# Altium integrated library Analog Devices Data Converters Analog-to-Digital Converters.IntLib: 2404 symbols (part 130 of 346)
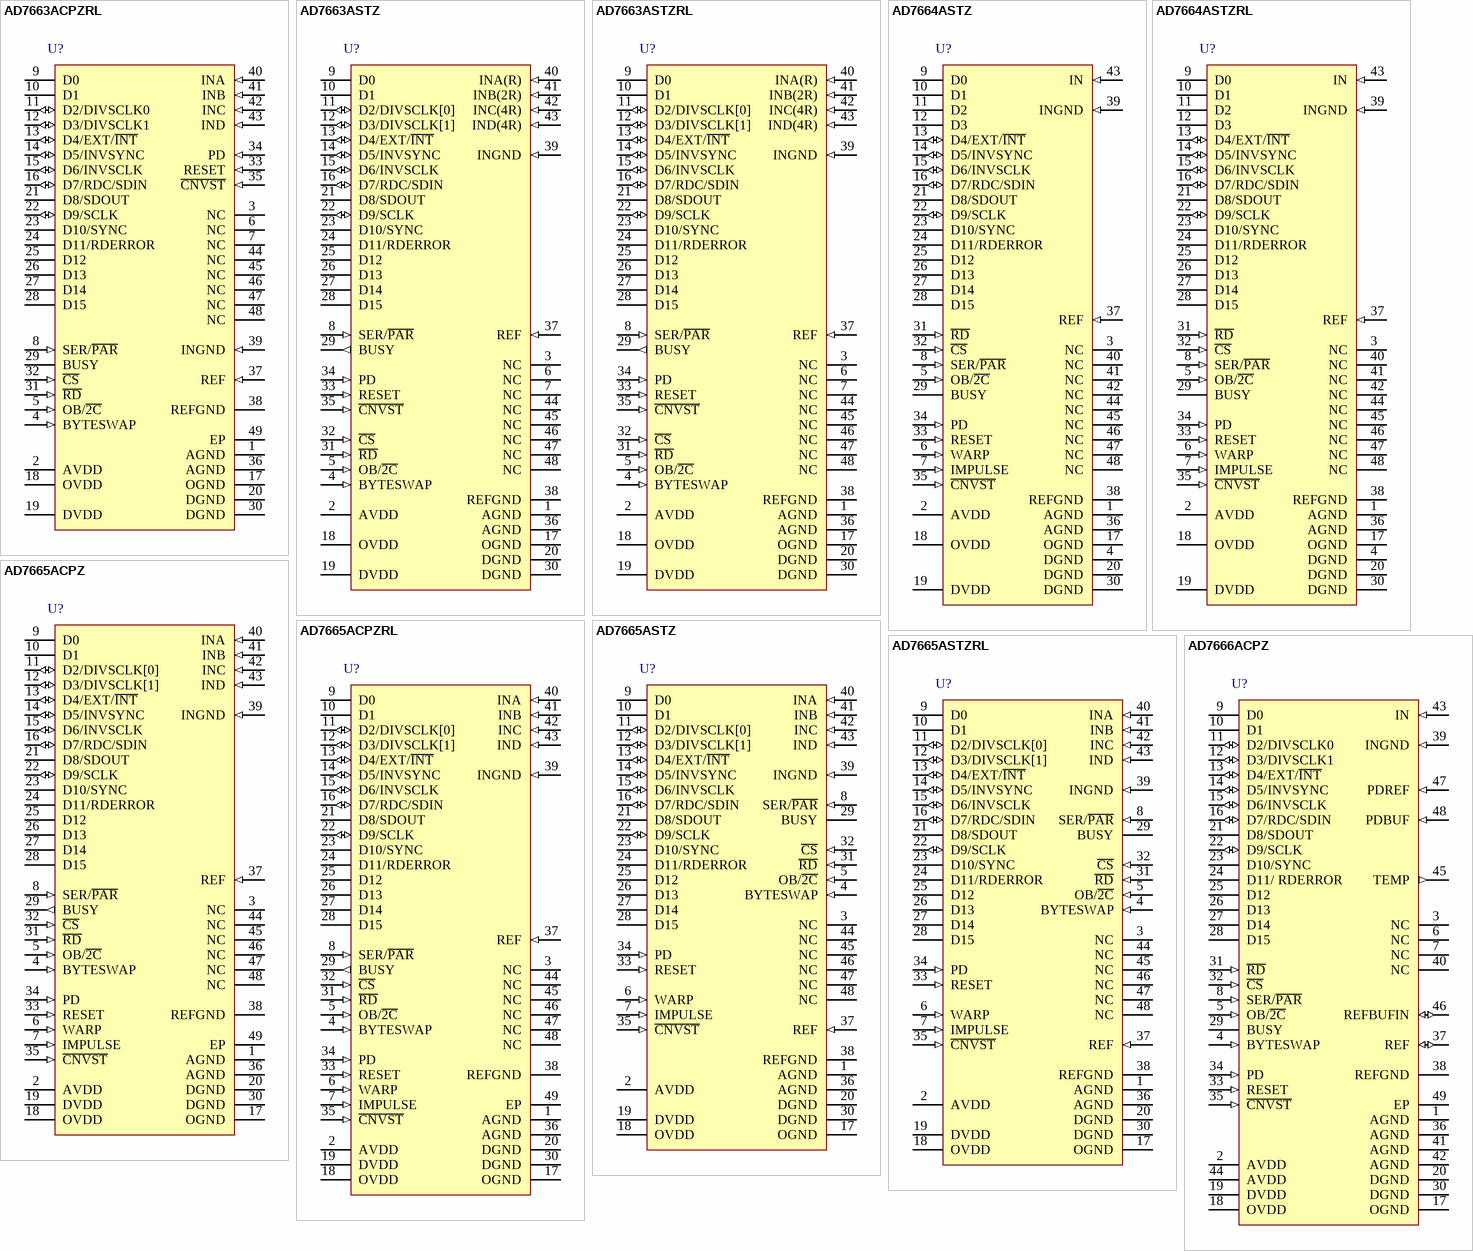
[diagram p227: symbols AD7663ACPZRL to AD7666ACPZ]

## AD7665ASTZRL
designator U?
Single 16-Bit Analog-to-Digital Converter with Parallel, Serial, SPI Interface, CMOS, 570KSPS, -40 to +85 degC, ST-48, Pb-Free, Reel; Generic Part Number: AD7665; Manufacturer: Analog Devices; PartNumber: AD7665ASTZRL; Resolution (Bits): 16; Channels: 1; Throughput Rate (SPS): 570K; Interface: Par, Ser, SPI; DatasheetVersion: Rev.C; PackageVersion: revA; PackageReference: ST-48; PackageDescription: 48-Pin Thin Quad Flat Pack 0.5 mm Pitch; Supplier 1: Digi-Key; Supplier Part Number 1: AD7665ASTZRLTR-ND; Supplier 2: Digi-Key; Supplier Part Number 2: AD7665ASTZRLCT-ND; Supplier 3: Digi-Key; Supplier Part Number 3: AD7665ASTZRLDKR-ND; Supplier 4: Newark; Supplier Part Number 4: 59K5155; Supplier 5: Mouser; Supplier Part Number 5: 584-AD7665ASTZR; RoHS: Y; Packing: Reel; Mounting Technology: Surface Mount; ComponentLink1Description: Manufacturer URL; ComponentLink1URL: http://www.analog.com/en/index.html; ComponentLink2Description: Datasheet; ComponentLink2URL: http://www.analog.com/static/imported-files/data_sheets/AD7665.pdf; ComponentLink3Description: Package Specification; ComponentLink3URL: http://www.analog.com/static/imported-files/packages/PKG_PDF/LQFP%28ST%29/ST_48.pdf; ComponentLink4Description: Product URL; ComponentLink4URL: http://www.analog.com/en/analog-to-digital-converters/ad-converters/ad7665/products/product.html
footprint ST-48_N (Thin QFP, 48-Leads, Body 7x7mm, Pitch 0.5mm, IPC Medium Density)
footprint ST-48_L (Thin QFP, 48-Leads, Body 7x7mm, Pitch 0.5mm, IPC High Density)
footprint ST-48_M (Thin QFP, 48-Leads, Body 7x7mm, Pitch 0.5mm, IPC Low Density)
pins: 1 AGND (power) "Analog Power Ground Pin.", 2 AVDD (power) "Input Analog Power Pin. Nominally 5 V.", 3 NC "No Connect.", 4 BYTESWAP (in) "Parallel Mode Selection (8/16 Bit). When LOW, the LSB is output on D[7:0] and the MSB is output on D[15:8]. When HIGH, the LSB is output on D[15:8] and the MSB is output on D[7:0].", 5 OB/~{2C} (in) "Straight Binary/Binary Twos Complement. When OB/2\C\ is HIGH, the digital output is straight binary; when LOW, the MSB is inverted, resulting in a twos complement output from its internal shift register.", 6 WARP (in) "Mode Selection. When HIGH and IMPULSE LOW, this input selects the fastest mode, the maximum throughput is achievable, and a minimum conversion rate must be applied in order to guarantee full specified accuracy. When LOW, (See Datasheet)", 7 IMPULSE (in) "Mode Selection. When HIGH and WARP LOW, this input selects a reduced Power Mode. In this mode, the power dissipation is approximately proportional to the sampling rate.", 8 SER/~{PAR} (in) "Serial/Parallel Selection Input. When LOW, the Parallel Port is selected; when HIGH, the Serial Interface Mode is selected and some bits of the data bus are used as a Serial Port.", 9 D0 (hiz) "Bit 0 of the Parallel Port Data Output Bus. When SER/P\A\R\ is HIGH, these outputs are in high impedance.", 10 D1 (hiz) "Bit 1 of the Parallel Port Data Output Bus. When SER/P\A\R\ is HIGH, these outputs are in high impedance.", 11 D2/DIVSCLK[0] (io) "When SER/P\A\R\ is LOW, these outputs are used as Bit 2 and Bit 3 of the Parallel Port Data Output Bus. When SER/P\A\R\ is HIGH, EXT/I\N\T\ is LOW and RDC/SDIN is LOW, which is the Serial Master Read after Convert Mode. (See Datasheet)", 12 D3/DIVSCLK[1] (io) "When SER/P\A\R\ is LOW, these outputs are used as Bit 2 and Bit 3 of the Parallel Port Data Output Bus. When SER/P\A\R\ is HIGH, EXT/I\N\T\ is LOW and RDC/SDIN is LOW, which is the Serial Master Read after Convert Mode. (See Datasheet)", 13 D4/EXT/~{INT} (io) "When SER/P\A\R\ is LOW, this output is used as Bit 4 of the Parallel Port Data Output Bus. When SER/P\A\R\ is HIGH, this input, part of the Serial Port, is used as a digital select input for choosing the internal or an (See Datasheet)", 14 D5/INVSYNC (io) "When SER/P\A\R\ is LOW, this output is used as Bit 5 of the Parallel Port Data Output Bus. When SER/P\A\R\ is HIGH, this input, part of the Serial Port, is used to select the active state of the SYNC signal. When LOW, SYNC (See Datasheet)", 15 D6/INVSCLK (io) "When SER/P\A\R\ is LOW, this output is used as Bit 6 of the Parallel Port Data Output Bus. When SER/P\A\R\ is HIGH, this input, part of the Serial Port, is used to invert the SCLK signal. It is active in both master and (See Datasheet)", 16 D7/RDC/SDIN (io) "When SER/P\A\R\ is LOW, this output is used as Bit 7 of the Parallel Port Data Output Bus. When SER/P\A\R\ is HIGH, this input, part of the Serial Port, is used as either an external data input or a read mode selection (See Datasheet)", 17 OGND (power) "Input/Output Interface Digital Power Ground.", 18 OVDD (power) "Input/Output Interface Digital Power. Nominally at the same supply as the supply of the host interface (5 V or 3 V).", 19 DVDD (power) "Digital Power. Nominally at 5 V.", 20 DGND (power) "Digital Power Ground.", 21 D8/SDOUT (hiz) "When SER/P\A\R\ is LOW, this output is used as Bit 8 of the Parallel Port Data Output Bus. When SER/P\A\R\ is HIGH, this output, part of the Serial Port, is used as a serial data output synchronized to SCLK. Conversion (See Datasheet)", 22 D9/SCLK (io) "When SER/P\A\R\ is LOW, this output is used as Bit 9 of the Parallel Port Data Output Bus. When SER/P\A\R\ is HIGH, this pin, part of the Serial Port, is used as a serial data clock input or output, dependent upon the logic (See Datasheet)", 23 D10/SYNC (hiz) "When SER/P\A\R\ is LOW, this output is used as Bit 10 of the Parallel Port Data Output Bus. When SER/P\A\R\ is HIGH, this output, part of the Serial Port, is used as a digital output frame synchronization for use with the (See Datasheet)", 24 D11/RDERROR (hiz) "When SER/P\A\R is LOW, this output is used as Bit 11 of the Parallel Port Data Output Bus. When SER/P\A\R\ is HIGH and EXT/I\N\T\ is HIGH, this output, part of the Serial Port, is used as an incomplete read error flag. In (See Datasheet)", 25 D12 (hiz) "Bit 12 of the Parallel Port Data Output Bus. When SER/PAR is HIGH, these outputs are in high impedance.", 26 D13 (hiz) "Bit 13 of the Parallel Port Data Output Bus. When SER/PAR is HIGH, these outputs are in high impedance.", 27 D14 (hiz) "Bit 14 of the Parallel Port Data Output Bus. When SER/PAR is HIGH, these outputs are in high impedance.", 28 D15 (hiz) "Bit 15 of the Parallel Port Data Output Bus. When SER/PAR is HIGH, these outputs are in high impedance.", 29 BUSY (hiz) "Busy Output. Transitions HIGH when a conversion is started and remains HIGH until the conversion is complete and the data is latched into the on-chip shift register. The falling edge of BUSY could be used as a data-ready (See Datasheet)", 30 DGND (power) "Must Be Tied to Digital Ground.", 31 ~{RD} (in) "Read Data. When C\S\ and R\D\ are both LOW, the Interface Parallel or Serial Output Bus is enabled.", 32 ~{CS} (in) "Chip Select. When C\S\ and R\D\ are both LOW, the Interface Parallel or Serial Output Bus is enabled. C\S\ is also used to gate the external serial clock.", 33 RESET (in) "Reset Input. When set to a logic HIGH, reset the AD7665. Current conversion, if any, is aborted. If not used, this pin could be tied to DGND.", 34 PD (in) "Power-Down Input. When set to a logic HIGH, power consumption is reduced and conversions are inhibited after the current one is completed.", 35 ~{CNVST} (in) "Start Conversion. A falling edge on C\N\V\S\T\ puts the internal sample-and-hold into the hold state and initiates a conversion. In Impulse Mode (IMPULSE HIGH and WARP LOW), if C\N\V\S\T\ is held LOW when the acquisition (See Datasheet)", 36 AGND (power) "Must Be Tied to Analog Ground.", 37 REF (in) "Reference Input Voltage.", 38 REFGND (power) "Reference Input Analog Ground.", 39 INGND (in) "Analog Input Ground.", 40 INA (in) "Analog Inputs. Refer to Table I for input range configuration.", 41 INB (in) "Analog Inputs. Refer to Table I for input range configuration.", 42 INC (in) "Analog Inputs. Refer to Table I for input range configuration.", 43 IND (in) "Analog Inputs. Refer to Table I for input range configuration.", 44 NC "No Connect.", 45 NC "No Connect.", 46 NC "No Connect.", 47 NC "No Connect.", 48 NC "No Connect."

## AD7666ACPZ
designator U?
Single 16-Bit PulSAR Analog-to-Digital Converter with Parallel, Serial, SPI Interface, 500KSPS, -40 to +85 degC, CP-48-1, Pb-Free, Tray; Generic Part Number: AD7666; Manufacturer: Analog Devices; PartNumber: AD7666ACPZ; Resolution (Bits): 16; Channels: 1; Throughput Rate (SPS): 500K; Interface: Par, Ser, SPI; DatasheetVersion: Rev.0; PackageVersion: Jan-2005; PackageReference: CP-48-1; PackageDescription: 48-Lead Lead Frame Chip Scale Package [LFCSP_VQ] 7 x 7 mm Body, Very Thin Quad; Supplier 1: Digi-Key; Supplier Part Number 1: AD7666ACPZ-ND; Supplier 2: Mouser; Supplier Part Number 2: 584-AD7666ACPZ; RoHS: Y; Packing: Tray; Mounting Technology: Surface Mount; Code_JEDEC: MO-220-VKKD-2; ComponentLink1Description: Manufacturer URL; ComponentLink1URL: http://www.analog.com/en/index.html; ComponentLink2Description: Datasheet; ComponentLink2URL: http://www.analog.com/static/imported-files/data_sheets/AD7666.pdf; ComponentLink3Description: Package Specification; ComponentLink3URL: http://www.analog.com/static/imported-files/packages/PKG_PDF/LFCSP(CP)/CP-48/CP_48_1.pdf; ComponentLink4Description: Product URL; ComponentLink4URL: http://www.analog.com/en/analog-to-digital-converters/ad-converters/ad7666/products/product.html
footprint CP-48-1_N (QFN, 48-Leads, Body 7x7mm, Pitch 0.5mm, Thermal Pad 5.1x5.1mm, IPC Medium Density)
footprint CP-48-1_L (QFN, 48-Leads, Body 7x7mm, Pitch 0.5mm, Thermal Pad 5.1x5.1mm, IPC High Density)
footprint CP-48-1_M (QFN, 48-Leads, Body 7x7mm, Pitch 0.5mm, Thermal Pad 5.1x5.1mm, IPC Low Density)
pins: 1 AGND (power) "Analog Power Ground Pin.", 2 AVDD (power) "Input Analog Power Pin. Nominally 5 V.", 3 NC "No Connect", 4 BYTESWAP (in) "Parallel Mode Selection (8-/16-bit). When LOW, the LSB is output on D[7:0] and the MSB is output on D[15:8]. When HIGH, the LSB is output on D[15:8] and the MSB is output on D[7:0].", 5 OB/~{2C} (in) "Straight Binary/Binary Twos Complement. When OB/2\C\ is HIGH, the digital output is straight binary; when LOW, the MSB is inverted, resulting in a twos complement output from its internal shift register.", 6 NC "No Connect", 7 NC "No Connect", 8 SER/~{PAR} (in) "Serial/Parallel Selection Input. When LOW, the parallel port is selected; when HIGH, the serial interface mode is selected and some bits of the DATA bus are used as a serial port.", 9 D0 (hiz) "Bit 0 of the Parallel Port Data Output Bus. When SER/P\A\R\ is HIGH, these outputs are in high impedance.", 10 D1 (hiz) "Bit 1 of the Parallel Port Data Output Bus. When SER/P\A\R\ is HIGH, these outputs are in high impedance.", 11 D2/DIVSCLK0 (io) "When SER/P\A\R\ is LOW, these outputs are used as Bit 2 and Bit 3 of the parallel port data output bus. When SER/P\A\R\ is HIGH, EXT/I\N\T\ is LOW, and RDC/SDIN is LOW (serial master read after convert), these inputs, part (See Datasheet)", 12 D3/DIVSCLK1 (io) "When SER/P\A\R\ is LOW, these outputs are used as Bit 2 and Bit 3 of the parallel port data output bus. When SER/P\A\R\ is HIGH, EXT/I\N\T\ is LOW, and RDC/SDIN is LOW (serial master read after convert), these inputs, part (See Datasheet)", 13 D4/EXT/~{INT} (io) "When SER/P\A\R\ is LOW, this output is used as Bit 4 of the parallel port data output bus. When SER/P\A\R\ is HIGH, this input, part of the serial port, is used as a digital select input for choosing the internal data clock (See Datasheet)", 14 D5/INVSYNC (io) "When SER/P\A\R\ is LOW, this output is used as Bit 5 of the parallel port data output bus. When SER/P\A\R\ is HIGH, this input, part of the serial port, is used to select the active state of the SYNC signal. It is active in (See Datasheet)", 15 D6/INVSCLK (io) "When SER/P\A\R\ is LOW, this output is used as Bit 6 of the parallel port data output bus. When SER/P\A\R\ is HIGH, this input, part of the serial port, is used to invert the SCLK signal. It is active in both master and (See Datasheet)", 16 D7/RDC/SDIN (io) "When SER/P\A\R\ is LOW, this output is used as Bit 7 of the parallel port data output bus. When SER/P\A\R\ is HIGH, this input, part of the serial port, is used as either an external data input or a read mode selection input (See Datasheet)", 17 OGND (power) "Input/Output Interface Digital Power Ground.", 18 OVDD (power) "Input/Output Interface Digital Power. Nominally at the same supply as the host interface (5 V or 3 V).", 19 DVDD (power) "Digital Power. Nominally at 5 V.", 20 DGND (power) "Digital Power Ground.", 21 D8/SDOUT (hiz) "When SER/P\A\R\ is LOW, this output is used as Bit 8 of the parallel port data output bus. When SER/P\A\R\ is HIGH, this output, part of the serial port, is used as a serial data output synchronized to SCLK. Conversion (See Datasheet)", 22 D9/SCLK (io) "When SER/P\A\R\ is LOW, this output is used as Bit 9 of the parallel port data or SCLK output bus.When SER/P\A\R\ is HIGH, this pin, part of the serial port, is used as a serial data clock input or output, depending upon the (See Datasheet)", 23 D10/SYNC (hiz) "When SER/P\A\R\ is LOW, this output is used as Bit 10 of the parallel port data output bus.When SER/P\A\R\ is HIGH, this output, part of the serial port, is used as a digital output frame synchronization for use with the (See Datasheet)", 24 D11/ RDERROR (hiz) "When SER/P\A\R\ is LOW, this output is used as Bit 11 of the parallel port data output bus. When SER/P\A\R\ and EXT/I\N\T\ are HIGH, this output, part of the serial port, is used as an incomplete read error flag. In slave (See Datasheet)", 25 D12 (hiz) "Bit 12 of the Parallel Port Data Output Bus. These pins are always outputs regardless of the state of SER/P\A\R\.", 26 D13 (hiz) "Bit 13 of the Parallel Port Data Output Bus. These pins are always outputs regardless of the state of SER/P\A\R\.", 27 D14 (hiz) "Bit 14 of the Parallel Port Data Output Bus. These pins are always outputs regardless of the state of SER/P\A\R\.", 28 D15 (hiz) "Bit 15 of the Parallel Port Data Output Bus. These pins are always outputs regardless of the state of SER/P\A\R\.", 29 BUSY (hiz) "Busy Output. Transitions HIGH when a conversion is started and remains HIGH until the conversion is complete and the data is latched into the on-chip shift register. The falling edge of BUSY could be used as a data ready (See Datasheet)", 30 DGND (power) "Must Be Tied to Digital Ground.", 31 ~{RD} (in) "Read Data. When C\S\ and R\D\ are both LOW, the interface parallel or serial output bus is enabled.", 32 ~{CS} (in) "Chip Select. When C\S\ and R\D\ are both LOW, the interface parallel or serial output bus is enabled. C\S\ is also used to gate the external clock.", 33 RESET (in) "Reset Input. When set to a logic HIGH, this pin resets the AD7652 and the current conversion, if any, is aborted. If not used, this pin could be tied to DGND.", 34 PD (in) "Power-Down Input. When set to a logic HIGH, power consumption is reduced and conversions are inhibited after the current one is completed.", 35 ~{CNVST} (in) "Start Conversion. If C\N\V\S\T\ is HIGH when the acquisition phase (t8) is complete, the next falling edge on C\N\V\S\T\ puts the internal sample/hold into the hold state and initiates a conversion. The mode is most (See Datasheet)", 36 AGND (power) "Analog Power Ground Pin.", 37 REF (io) "Reference Input Voltage. On-chip reference output voltage.", 38 REFGND (power) "Reference Input Analog Ground.", 39 INGND (in) "Analog Input Ground.", 40 NC "No Connect", 41 AGND (power) "Analog Power Ground Pin.", 42 AGND (power) "Analog Power Ground Pin.", 43 IN (in) "Primary Analog Input with a Range of 0 V to 2.5 V.", 44 AVDD (power) "Input Analog Power Pin. Nominally 5 V.", 45 TEMP (out) "Temperature Sensor Voltage Output.", 46 REFBUFIN (io) "Reference Input Voltage. The reference output and the reference buffer input.", 47 PDREF (in) "This pin allows the choice of internal or external voltage references. When LOW, the on-chip reference is turned on. When HIGH, the internal reference is switched off and an external reference must be used.", 48 PDBUF (in) "This pin allows the choice of buffering an internal or external reference with the internal buffer. When LOW, the buffer is selected. When HIGH, the buffer is switched off.", 49 EP (power) "PADDLE CONNECTED TO AGND."

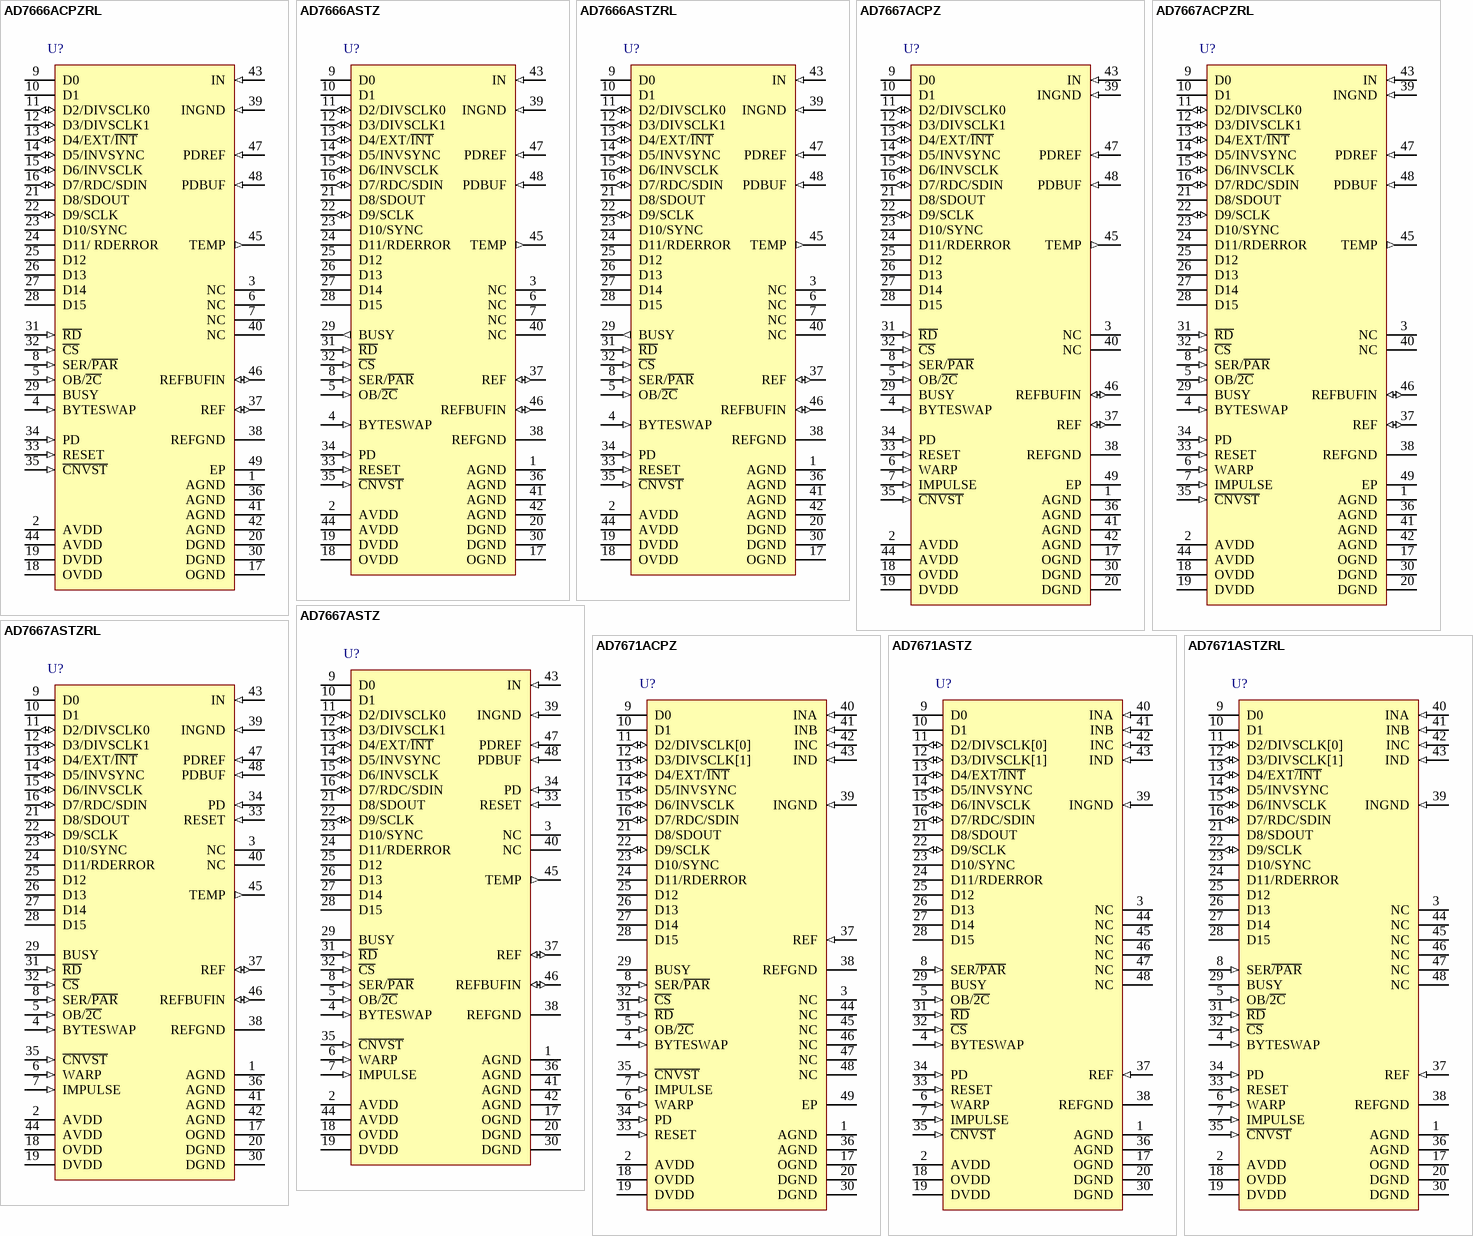
[diagram p41: symbols AD7666ACPZRL to AD7671ASTZRL]

## AD7666ACPZRL
designator U?
Single 16-Bit PulSAR Analog-to-Digital Converter with Parallel, Serial, SPI Interface, 500KSPS, -40 to +85 degC, CP-48-1, Pb-Free, Reel; Generic Part Number: AD7666; Manufacturer: Analog Devices; PartNumber: AD7666ACPZRL; Resolution (Bits): 16; Channels: 1; Throughput Rate (SPS): 500K; Interface: Par, Ser, SPI; DatasheetVersion: Rev.0; PackageVersion: Jan-2005; PackageReference: CP-48-1; PackageDescription: 48-Lead Lead Frame Chip Scale Package [LFCSP_VQ] 7 x 7 mm Body, Very Thin Quad; Supplier 1: Digi-Key; Supplier Part Number 1: AD7666ACPZRL-ND; Supplier 2: Mouser; Supplier Part Number 2: 584-AD7666ACPZR; RoHS: Y; Packing: Reel; Mounting Technology: Surface Mount; Code_JEDEC: MO-220-VKKD-2; ComponentLink1Description: Manufacturer URL; ComponentLink1URL: http://www.analog.com/en/index.html; ComponentLink2Description: Datasheet; ComponentLink2URL: http://www.analog.com/static/imported-files/data_sheets/AD7666.pdf; ComponentLink3Description: Package Specification; ComponentLink3URL: http://www.analog.com/static/imported-files/packages/PKG_PDF/LFCSP(CP)/CP-48/CP_48_1.pdf; ComponentLink4Description: Product URL; ComponentLink4URL: http://www.analog.com/en/analog-to-digital-converters/ad-converters/ad7666/products/product.html
footprint CP-48-1_N (QFN, 48-Leads, Body 7x7mm, Pitch 0.5mm, Thermal Pad 5.1x5.1mm, IPC Medium Density)
footprint CP-48-1_L (QFN, 48-Leads, Body 7x7mm, Pitch 0.5mm, Thermal Pad 5.1x5.1mm, IPC High Density)
footprint CP-48-1_M (QFN, 48-Leads, Body 7x7mm, Pitch 0.5mm, Thermal Pad 5.1x5.1mm, IPC Low Density)
pins: 1 AGND (power) "Analog Power Ground Pin.", 2 AVDD (power) "Input Analog Power Pin. Nominally 5 V.", 3 NC "No Connect", 4 BYTESWAP (in) "Parallel Mode Selection (8-/16-bit). When LOW, the LSB is output on D[7:0] and the MSB is output on D[15:8]. When HIGH, the LSB is output on D[15:8] and the MSB is output on D[7:0].", 5 OB/~{2C} (in) "Straight Binary/Binary Twos Complement. When OB/2\C\ is HIGH, the digital output is straight binary; when LOW, the MSB is inverted, resulting in a twos complement output from its internal shift register.", 6 NC "No Connect", 7 NC "No Connect", 8 SER/~{PAR} (in) "Serial/Parallel Selection Input. When LOW, the parallel port is selected; when HIGH, the serial interface mode is selected and some bits of the DATA bus are used as a serial port.", 9 D0 (hiz) "Bit 0 of the Parallel Port Data Output Bus. When SER/P\A\R\ is HIGH, these outputs are in high impedance.", 10 D1 (hiz) "Bit 1 of the Parallel Port Data Output Bus. When SER/P\A\R\ is HIGH, these outputs are in high impedance.", 11 D2/DIVSCLK0 (io) "When SER/P\A\R\ is LOW, these outputs are used as Bit 2 and Bit 3 of the parallel port data output bus. When SER/P\A\R\ is HIGH, EXT/I\N\T\ is LOW, and RDC/SDIN is LOW (serial master read after convert), these inputs, part (See Datasheet)", 12 D3/DIVSCLK1 (io) "When SER/P\A\R\ is LOW, these outputs are used as Bit 2 and Bit 3 of the parallel port data output bus. When SER/P\A\R\ is HIGH, EXT/I\N\T\ is LOW, and RDC/SDIN is LOW (serial master read after convert), these inputs, part (See Datasheet)", 13 D4/EXT/~{INT} (io) "When SER/P\A\R\ is LOW, this output is used as Bit 4 of the parallel port data output bus. When SER/P\A\R\ is HIGH, this input, part of the serial port, is used as a digital select input for choosing the internal data clock (See Datasheet)", 14 D5/INVSYNC (io) "When SER/P\A\R\ is LOW, this output is used as Bit 5 of the parallel port data output bus. When SER/P\A\R\ is HIGH, this input, part of the serial port, is used to select the active state of the SYNC signal. It is active in (See Datasheet)", 15 D6/INVSCLK (io) "When SER/P\A\R\ is LOW, this output is used as Bit 6 of the parallel port data output bus. When SER/P\A\R\ is HIGH, this input, part of the serial port, is used to invert the SCLK signal. It is active in both master and (See Datasheet)", 16 D7/RDC/SDIN (io) "When SER/P\A\R\ is LOW, this output is used as Bit 7 of the parallel port data output bus. When SER/P\A\R\ is HIGH, this input, part of the serial port, is used as either an external data input or a read mode selection input (See Datasheet)", 17 OGND (power) "Input/Output Interface Digital Power Ground.", 18 OVDD (power) "Input/Output Interface Digital Power. Nominally at the same supply as the host interface (5 V or 3 V).", 19 DVDD (power) "Digital Power. Nominally at 5 V.", 20 DGND (power) "Digital Power Ground.", 21 D8/SDOUT (hiz) "When SER/P\A\R\ is LOW, this output is used as Bit 8 of the parallel port data output bus. When SER/P\A\R\ is HIGH, this output, part of the serial port, is used as a serial data output synchronized to SCLK. Conversion (See Datasheet)", 22 D9/SCLK (io) "When SER/P\A\R\ is LOW, this output is used as Bit 9 of the parallel port data or SCLK output bus.When SER/P\A\R\ is HIGH, this pin, part of the serial port, is used as a serial data clock input or output, depending upon the (See Datasheet)", 23 D10/SYNC (hiz) "When SER/P\A\R\ is LOW, this output is used as Bit 10 of the parallel port data output bus.When SER/P\A\R\ is HIGH, this output, part of the serial port, is used as a digital output frame synchronization for use with the (See Datasheet)", 24 D11/ RDERROR (hiz) "When SER/P\A\R\ is LOW, this output is used as Bit 11 of the parallel port data output bus. When SER/P\A\R\ and EXT/I\N\T\ are HIGH, this output, part of the serial port, is used as an incomplete read error flag. In slave (See Datasheet)", 25 D12 (hiz) "Bit 12 of the Parallel Port Data Output Bus. These pins are always outputs regardless of the state of SER/P\A\R\.", 26 D13 (hiz) "Bit 13 of the Parallel Port Data Output Bus. These pins are always outputs regardless of the state of SER/P\A\R\.", 27 D14 (hiz) "Bit 14 of the Parallel Port Data Output Bus. These pins are always outputs regardless of the state of SER/P\A\R\.", 28 D15 (hiz) "Bit 15 of the Parallel Port Data Output Bus. These pins are always outputs regardless of the state of SER/P\A\R\.", 29 BUSY (hiz) "Busy Output. Transitions HIGH when a conversion is started and remains HIGH until the conversion is complete and the data is latched into the on-chip shift register. The falling edge of BUSY could be used as a data ready (See Datasheet)", 30 DGND (power) "Must Be Tied to Digital Ground.", 31 ~{RD} (in) "Read Data. When C\S\ and R\D\ are both LOW, the interface parallel or serial output bus is enabled.", 32 ~{CS} (in) "Chip Select. When C\S\ and R\D\ are both LOW, the interface parallel or serial output bus is enabled. C\S\ is also used to gate the external clock.", 33 RESET (in) "Reset Input. When set to a logic HIGH, this pin resets the AD7652 and the current conversion, if any, is aborted. If not used, this pin could be tied to DGND.", 34 PD (in) "Power-Down Input. When set to a logic HIGH, power consumption is reduced and conversions are inhibited after the current one is completed.", 35 ~{CNVST} (in) "Start Conversion. If C\N\V\S\T\ is HIGH when the acquisition phase (t8) is complete, the next falling edge on C\N\V\S\T\ puts the internal sample/hold into the hold state and initiates a conversion. The mode is most (See Datasheet)", 36 AGND (power) "Analog Power Ground Pin.", 37 REF (io) "Reference Input Voltage. On-chip reference output voltage.", 38 REFGND (power) "Reference Input Analog Ground.", 39 INGND (in) "Analog Input Ground.", 40 NC "No Connect", 41 AGND (power) "Analog Power Ground Pin.", 42 AGND (power) "Analog Power Ground Pin.", 43 IN (in) "Primary Analog Input with a Range of 0 V to 2.5 V.", 44 AVDD (power) "Input Analog Power Pin. Nominally 5 V.", 45 TEMP (out) "Temperature Sensor Voltage Output.", 46 REFBUFIN (io) "Reference Input Voltage. The reference output and the reference buffer input.", 47 PDREF (in) "This pin allows the choice of internal or external voltage references. When LOW, the on-chip reference is turned on. When HIGH, the internal reference is switched off and an external reference must be used.", 48 PDBUF (in) "This pin allows the choice of buffering an internal or external reference with the internal buffer. When LOW, the buffer is selected. When HIGH, the buffer is switched off.", 49 EP (power) "PADDLE CONNECTED TO AGND."

## AD7666ASTZ
designator U?
Single 16-Bit PulSAR Analog-to-Digital Converter with Parallel, Serial, SPI Interface, 500KSPS, -40 to +85 degC, ST-48, Pb-Free, Tray; Generic Part Number: AD7666; Manufacturer: Analog Devices; PartNumber: AD7666ASTZ; Resolution (Bits): 16; Channels: 1; Throughput Rate (SPS): 500K; Interface: Par, Ser, SPI; DatasheetVersion: Rev.0; PackageVersion: revA; PackageReference: ST-48; PackageDescription: 48-Pin Thin Quad Flat Pack 0.5 mm Pitch; Supplier 1: Digi-Key; Supplier Part Number 1: AD7666ASTZ-ND; Supplier 2: Newark; Supplier Part Number 2: 12M8898; Supplier 3: Mouser; Supplier Part Number 3: 584-AD7666ASTZ; RoHS: Y; Packing: Tray; Mounting Technology: Surface Mount; ComponentLink1Description: Manufacturer URL; ComponentLink1URL: http://www.analog.com/en/index.html; ComponentLink2Description: Datasheet; ComponentLink2URL: http://www.analog.com/static/imported-files/data_sheets/AD7666.pdf; ComponentLink3Description: Package Specification; ComponentLink3URL: http://www.analog.com/static/imported-files/packages/PKG_PDF/LQFP%28ST%29/ST_48.pdf; ComponentLink4Description: Product URL; ComponentLink4URL: http://www.analog.com/en/analog-to-digital-converters/ad-converters/ad7666/products/product.html
footprint ST-48_N (Thin QFP, 48-Leads, Body 7x7mm, Pitch 0.5mm, IPC Medium Density)
footprint ST-48_L (Thin QFP, 48-Leads, Body 7x7mm, Pitch 0.5mm, IPC High Density)
footprint ST-48_M (Thin QFP, 48-Leads, Body 7x7mm, Pitch 0.5mm, IPC Low Density)
pins: 1 AGND (power) "Analog Power Ground Pin.", 2 AVDD (power) "Input Analog Power Pin. Nominally 5 V.", 3 NC "No Connect.", 4 BYTESWAP (in) "Parallel Mode Selection (8-/16-bit). When LOW, the LSB is output on D[7:0] and the MSB is output on D[15:8]. When HIGH, the LSB is output on D[15:8] and the MSB is output on D[7:0].", 5 OB/~{2C} (in) "Straight Binary/Binary Twos Complement. When OB/2\C\ is HIGH, the digital output is straight binary; when LOW, the MSB is inverted, resulting in a twos complement output from its internal shift register.", 6 NC "No Connect.", 7 NC "No Connect.", 8 SER/~{PAR} (in) "Serial/Parallel Selection Input. When LOW, the parallel port is selected; when HIGH, the serial interface mode is selected and some bits of the DATA bus are used as a serial port.", 9 D0 (hiz) "Bit 0 and Bit 1 of the Parallel Port Data Output Bus. When SER/P\A\R\ is HIGH, these outputs are in high impedance.", 10 D1 (hiz) "Bit 0 and Bit 1 of the Parallel Port Data Output Bus. When SER/P\A\R\ is HIGH, these outputs are in high impedance.", 11 D2/DIVSCLK0 (io) "When SER/P\A\R\ is LOW, these outputs are used as Bit 2 and Bit 3 of the parallel port data output bus. When SER/P\A\R\ is HIGH, EXT/I\N\T\ is LOW, and RDC/SDIN is LOW (serial master read after convert), these inputs, part (See Datasheet)", 12 D3/DIVSCLK1 (io) "When SER/P\A\R\ is LOW, these outputs are used as Bit 2 and Bit 3 of the parallel port data output bus. When SER/P\A\R\ is HIGH, EXT/I\N\T\ is LOW, and RDC/SDIN is LOW (serial master read after convert), these inputs, part (See Datasheet)", 13 D4/EXT/~{INT} (io) "When SER/P\A\R\ is LOW, this output is used as Bit 4 of the parallel port data output bus. When SER/P\A\R\ is HIGH, this input, part of the serial port, is used as a digital select input for choosing the internal data clock (See Datasheet)", 14 D5/INVSYNC (io) "When SER/P\A\R\ is LOW, this output is used as Bit 5 of the parallel port data output bus. When SER/P\A\R\ is HIGH, this input, part of the serial port, is used to select the active state of the SYNC signal. It is active in (See Datasheet)", 15 D6/INVSCLK (io) "When SER/P\A\R\ is LOW, this output is used as Bit 6 of the parallel port data output bus. When SER/P\A\R\ is HIGH, this input, part of the serial port, is used to invert the SCLK signal. It is active in both master and (See Datasheet)", 16 D7/RDC/SDIN (io) "When SER/P\A\R\ is LOW, this output is used as Bit 7 of the parallel port data output bus. When SER/P\A\R\ is HIGH, this input, part of the serial port, is used as either an external data input or a read mode selection input (See Datasheet)", 17 OGND (power) "Input/Output Interface Digital Power Ground.", 18 OVDD (power) "Input/Output Interface Digital Power. Nominally at the same supply as the host interface (5 V or 3 V).", 19 DVDD (power) "Digital Power. Nominally at 5 V.", 20 DGND (power) "Digital Power Ground.", 21 D8/SDOUT (hiz) "When SER/P\A\R\ is LOW, this output is used as Bit 8 of the parallel port data output bus. When SER/P\A\R\ is HIGH, this output, part of the serial port, is used as a serial data output synchronized to SCLK. Conversion (See Datasheet)", 22 D9/SCLK (io) "When SER/P\A\R\ is LOW, this output is used as Bit 9 of the parallel port data or SCLK output bus.When SER/P\A\R\ is HIGH, this pin, part of the serial port, is used as a serial data clock input or output, depending upon the (See Datasheet)", 23 D10/SYNC (hiz) "When SER/P\A\R\ is LOW, this output is used as Bit 10 of the parallel port data output bus.When SER/P\A\R\ is HIGH, this output, part of the serial port, is used as a digital output frame synchronization for use with the (See Datasheet)", 24 D11/RDERROR (hiz) "When SER/P\A\R\ is LOW, this output is used as Bit 11 of the parallel port data output bus. When SER/P\A\R\ and EXT/I\N\T\ are HIGH, this output, part of the serial port, is used as an incomplete read error flag. In slave (See Datasheet)", 25 D12 (hiz) "Bit 12 to Bit 15 of the Parallel Port Data Output Bus. These pins are always outputs regardless of the state of SER/P\A\R\.", 26 D13 (hiz) "Bit 12 to Bit 15 of the Parallel Port Data Output Bus. These pins are always outputs regardless of the state of SER/P\A\R\.", 27 D14 (hiz) "Bit 12 to Bit 15 of the Parallel Port Data Output Bus. These pins are always outputs regardless of the state of SER/P\A\R\.", 28 D15 (hiz) "Bit 12 to Bit 15 of the Parallel Port Data Output Bus. These pins are always outputs regardless of the state of SER/P\A\R\.", 29 BUSY (out) "Busy Output. Transitions HIGH when a conversion is started and remains HIGH until the conversion is complete and the data is latched into the on-chip shift register. The falling edge of BUSY could be used as a data ready (See Datasheet)", 30 DGND (power) "Must Be Tied to Digital Ground.", 31 ~{RD} (in) "Read Data. When C\S\ and R\D\ are both LOW, the interface parallel or serial output bus is enabled.", 32 ~{CS} (in) "Chip Select. When C\S\ and R\D\ are both LOW, the interface parallel or serial output bus is enabled. C\S\ is also used to gate the external clock.", 33 RESET (in) "Reset Input. When set to a logic HIGH, this pin resets the AD7666 and the current conversion, if any, is aborted. If not used, this pin could be tied to DGND.", 34 PD (in) "Power-Down Input. When set to a logic HIGH, power consumption is reduced and conversions are inhibited after the current one is completed.", 35 ~{CNVST} (in) "Start Conversion. If C\N\V\S\T\ is HIGH when the acquisition phase (t8) is complete, the next falling edge on C\N\V\S\T\ puts the internal sample/hold into the hold state and initiates a conversion. The mode is most (See Datasheet)", 36 AGND (power) "Analog Power Ground Pin.", 37 REF (io) "Reference Input Voltage. On-chip reference output voltage.", 38 REFGND (power) "Reference Input Analog Ground.", 39 INGND (in) "Analog Input Ground.", 40 NC "No Connect.", 41 AGND (power) "Analog Power Ground Pin.", 42 AGND (power) "Analog Power Ground Pin.", 43 IN (in) "Primary Analog Input with a Range of 0 V to 2.5 V.", 44 AVDD (power) "Input Analog Power Pin. Nominally 5 V.", 45 TEMP (out) "Temperature Sensor Voltage Output.", 46 REFBUFIN (io) "Reference Input Voltage. The reference output and the reference buffer input.", 47 PDREF (in) "This pin allows the choice of internal or external voltage references. When LOW, the on-chip reference is turned on. When HIGH, the internal reference is switched off and an external reference must be used.", 48 PDBUF (in) "This pin allows the choice of buffering an internal or external reference with the internal buffer. When LOW, the buffer is selected. When HIGH, the buffer is switched off."

## AD7666ASTZRL
designator U?
Single 16-Bit PulSAR Analog-to-Digital Converter with Parallel, Serial, SPI Interface, 500KSPS, -40 to +85 degC, ST-48, Pb-Free, Reel; Generic Part Number: AD7666; Manufacturer: Analog Devices; PartNumber: AD7666ASTZRL; Resolution (Bits): 16; Channels: 1; Throughput Rate (SPS): 500K; Interface: Par, Ser, SPI; DatasheetVersion: Rev.0; PackageVersion: revA; PackageReference: ST-48; PackageDescription: 48-Pin Thin Quad Flat Pack 0.5 mm Pitch; Supplier 1: Digi-Key; Supplier Part Number 1: AD7666ASTZRL-ND; Supplier 2: Mouser; Supplier Part Number 2: 584-AD7666ASTZR; RoHS: Y; Packing: Reel; Mounting Technology: Surface Mount; ComponentLink1Description: Manufacturer URL; ComponentLink1URL: http://www.analog.com/en/index.html; ComponentLink2Description: Datasheet; ComponentLink2URL: http://www.analog.com/static/imported-files/data_sheets/AD7666.pdf; ComponentLink3Description: Package Specification; ComponentLink3URL: http://www.analog.com/static/imported-files/packages/PKG_PDF/LQFP%28ST%29/ST_48.pdf; ComponentLink4Description: Product URL; ComponentLink4URL: http://www.analog.com/en/analog-to-digital-converters/ad-converters/ad7666/products/product.html
footprint ST-48_N (Thin QFP, 48-Leads, Body 7x7mm, Pitch 0.5mm, IPC Medium Density)
footprint ST-48_L (Thin QFP, 48-Leads, Body 7x7mm, Pitch 0.5mm, IPC High Density)
footprint ST-48_M (Thin QFP, 48-Leads, Body 7x7mm, Pitch 0.5mm, IPC Low Density)
pins: 1 AGND (power) "Analog Power Ground Pin.", 2 AVDD (power) "Input Analog Power Pin. Nominally 5 V.", 3 NC "No Connect.", 4 BYTESWAP (in) "Parallel Mode Selection (8-/16-bit). When LOW, the LSB is output on D[7:0] and the MSB is output on D[15:8]. When HIGH, the LSB is output on D[15:8] and the MSB is output on D[7:0].", 5 OB/~{2C} (in) "Straight Binary/Binary Twos Complement. When OB/2\C\ is HIGH, the digital output is straight binary; when LOW, the MSB is inverted, resulting in a twos complement output from its internal shift register.", 6 NC "No Connect.", 7 NC "No Connect.", 8 SER/~{PAR} (in) "Serial/Parallel Selection Input. When LOW, the parallel port is selected; when HIGH, the serial interface mode is selected and some bits of the DATA bus are used as a serial port.", 9 D0 (hiz) "Bit 0 and Bit 1 of the Parallel Port Data Output Bus. When SER/P\A\R\ is HIGH, these outputs are in high impedance.", 10 D1 (hiz) "Bit 0 and Bit 1 of the Parallel Port Data Output Bus. When SER/P\A\R\ is HIGH, these outputs are in high impedance.", 11 D2/DIVSCLK0 (io) "When SER/P\A\R\ is LOW, these outputs are used as Bit 2 and Bit 3 of the parallel port data output bus. When SER/P\A\R\ is HIGH, EXT/I\N\T\ is LOW, and RDC/SDIN is LOW (serial master read after convert), these inputs, part (See Datasheet)", 12 D3/DIVSCLK1 (io) "When SER/P\A\R\ is LOW, these outputs are used as Bit 2 and Bit 3 of the parallel port data output bus. When SER/P\A\R\ is HIGH, EXT/I\N\T\ is LOW, and RDC/SDIN is LOW (serial master read after convert), these inputs, part (See Datasheet)", 13 D4/EXT/~{INT} (io) "When SER/P\A\R\ is LOW, this output is used as Bit 4 of the parallel port data output bus. When SER/P\A\R\ is HIGH, this input, part of the serial port, is used as a digital select input for choosing the internal data clock (See Datasheet)", 14 D5/INVSYNC (io) "When SER/P\A\R\ is LOW, this output is used as Bit 5 of the parallel port data output bus. When SER/P\A\R\ is HIGH, this input, part of the serial port, is used to select the active state of the SYNC signal. It is active in (See Datasheet)", 15 D6/INVSCLK (io) "When SER/P\A\R\ is LOW, this output is used as Bit 6 of the parallel port data output bus. When SER/P\A\R\ is HIGH, this input, part of the serial port, is used to invert the SCLK signal. It is active in both master and (See Datasheet)", 16 D7/RDC/SDIN (io) "When SER/P\A\R\ is LOW, this output is used as Bit 7 of the parallel port data output bus. When SER/P\A\R\ is HIGH, this input, part of the serial port, is used as either an external data input or a read mode selection input (See Datasheet)", 17 OGND (power) "Input/Output Interface Digital Power Ground.", 18 OVDD (power) "Input/Output Interface Digital Power. Nominally at the same supply as the host interface (5 V or 3 V).", 19 DVDD (power) "Digital Power. Nominally at 5 V.", 20 DGND (power) "Digital Power Ground.", 21 D8/SDOUT (hiz) "When SER/P\A\R\ is LOW, this output is used as Bit 8 of the parallel port data output bus. When SER/P\A\R\ is HIGH, this output, part of the serial port, is used as a serial data output synchronized to SCLK. Conversion (See Datasheet)", 22 D9/SCLK (io) "When SER/P\A\R\ is LOW, this output is used as Bit 9 of the parallel port data or SCLK output bus.When SER/P\A\R\ is HIGH, this pin, part of the serial port, is used as a serial data clock input or output, depending upon the (See Datasheet)", 23 D10/SYNC (hiz) "When SER/P\A\R\ is LOW, this output is used as Bit 10 of the parallel port data output bus.When SER/P\A\R\ is HIGH, this output, part of the serial port, is used as a digital output frame synchronization for use with the (See Datasheet)", 24 D11/RDERROR (hiz) "When SER/P\A\R\ is LOW, this output is used as Bit 11 of the parallel port data output bus. When SER/P\A\R\ and EXT/I\N\T\ are HIGH, this output, part of the serial port, is used as an incomplete read error flag. In slave (See Datasheet)", 25 D12 (hiz) "Bit 12 to Bit 15 of the Parallel Port Data Output Bus. These pins are always outputs regardless of the state of SER/P\A\R\.", 26 D13 (hiz) "Bit 12 to Bit 15 of the Parallel Port Data Output Bus. These pins are always outputs regardless of the state of SER/P\A\R\.", 27 D14 (hiz) "Bit 12 to Bit 15 of the Parallel Port Data Output Bus. These pins are always outputs regardless of the state of SER/P\A\R\.", 28 D15 (hiz) "Bit 12 to Bit 15 of the Parallel Port Data Output Bus. These pins are always outputs regardless of the state of SER/P\A\R\.", 29 BUSY (out) "Busy Output. Transitions HIGH when a conversion is started and remains HIGH until the conversion is complete and the data is latched into the on-chip shift register. The falling edge of BUSY could be used as a data ready (See Datasheet)", 30 DGND (power) "Must Be Tied to Digital Ground.", 31 ~{RD} (in) "Read Data. When C\S\ and R\D\ are both LOW, the interface parallel or serial output bus is enabled.", 32 ~{CS} (in) "Chip Select. When C\S\ and R\D\ are both LOW, the interface parallel or serial output bus is enabled. C\S\ is also used to gate the external clock.", 33 RESET (in) "Reset Input. When set to a logic HIGH, this pin resets the AD7666 and the current conversion, if any, is aborted. If not used, this pin could be tied to DGND.", 34 PD (in) "Power-Down Input. When set to a logic HIGH, power consumption is reduced and conversions are inhibited after the current one is completed.", 35 ~{CNVST} (in) "Start Conversion. If C\N\V\S\T\ is HIGH when the acquisition phase (t8) is complete, the next falling edge on C\N\V\S\T\ puts the internal sample/hold into the hold state and initiates a conversion. The mode is most (See Datasheet)", 36 AGND (power) "Analog Power Ground Pin.", 37 REF (io) "Reference Input Voltage. On-chip reference output voltage.", 38 REFGND (power) "Reference Input Analog Ground.", 39 INGND (in) "Analog Input Ground.", 40 NC "No Connect.", 41 AGND (power) "Analog Power Ground Pin.", 42 AGND (power) "Analog Power Ground Pin.", 43 IN (in) "Primary Analog Input with a Range of 0 V to 2.5 V.", 44 AVDD (power) "Input Analog Power Pin. Nominally 5 V.", 45 TEMP (out) "Temperature Sensor Voltage Output.", 46 REFBUFIN (io) "Reference Input Voltage. The reference output and the reference buffer input.", 47 PDREF (in) "This pin allows the choice of internal or external voltage references. When LOW, the on-chip reference is turned on. When HIGH, the internal reference is switched off and an external reference must be used.", 48 PDBUF (in) "This pin allows the choice of buffering an internal or external reference with the internal buffer. When LOW, the buffer is selected. When HIGH, the buffer is switched off."

## AD7667ACPZ
designator U?
Single 16-Bit PulSAR Analog-to-Digital Converter with Parallel, Serial, SPI Interface, 1MSPS, -40 to +85 degC, CP-48-1, Pb-Free, Tray; Generic Part Number: AD7667; Manufacturer: Analog Devices; PartNumber: AD7667ACPZ; Resolution (Bits): 16; Channels: 1; Throughput Rate (SPS): 1M; Interface: Par, Ser, SPI; DatasheetVersion: Rev.0; PackageVersion: Jan-2005; PackageReference: CP-48-1; PackageDescription: 48-Lead Lead Frame Chip Scale Package [LFCSP_VQ] 7 x 7 mm Body, Very Thin Quad; Supplier 1: Digi-Key; Supplier Part Number 1: AD7667ACPZ-ND; Supplier 2: Mouser; Supplier Part Number 2: 584-AD7667ACPZ; RoHS: Y; Packing: Tray; Mounting Technology: Surface Mount; Code_JEDEC: MO-220-VKKD-2; ComponentLink1Description: Manufacturer URL; ComponentLink1URL: http://www.analog.com/en/index.html; ComponentLink2Description: Datasheet; ComponentLink2URL: http://www.analog.com/static/imported-files/data_sheets/AD7667.pdf; ComponentLink3Description: Package Specification; ComponentLink3URL: http://www.analog.com/static/imported-files/packages/PKG_PDF/LFCSP(CP)/CP-48/CP_48_1.pdf; ComponentLink4Description: Product URL; ComponentLink4URL: http://www.analog.com/en/analog-to-digital-converters/ad-converters/ad7667/products/product.html
footprint CP-48-1_N (QFN, 48-Leads, Body 7x7mm, Pitch 0.5mm, Thermal Pad 5.1x5.1mm, IPC Medium Density)
footprint CP-48-1_L (QFN, 48-Leads, Body 7x7mm, Pitch 0.5mm, Thermal Pad 5.1x5.1mm, IPC High Density)
footprint CP-48-1_M (QFN, 48-Leads, Body 7x7mm, Pitch 0.5mm, Thermal Pad 5.1x5.1mm, IPC Low Density)
pins: 1 AGND (power) "Analog Power Ground Pin.", 2 AVDD (power) "Input Analog Power Pin. Nominally 5 V.", 3 NC "No Connect.", 4 BYTESWAP (in) "Parallel Mode Selection (8-/16-bit). When LOW, the LSB is output on D[7:0] and the MSB is output on D[15:8]. When HIGH, the LSB is output on D[15:8] and the MSB is output on D[7:0].", 5 OB/~{2C} (in) "Straight Binary/Binary Twos Complement. When OB/2\C\ is HIGH, the digital output is straight binary; when LOW, the MSB is inverted, resulting in a twos complement output from its internal shift register.", 6 WARP (in) "Mode Selection. When this pin is HIGH and the IMPULSE pin is LOW, this input selects the fastest mode, the maximum throughput is achievable, and a minimum conversion rate must be applied in order to guarantee full specified (See Datasheet)", 7 IMPULSE (in) "Mode Selection. When IMPULSE is HIGH and WARP is LOW, this input selects a reduced power mode. In this mode, the power dissipation is approximately proportional to the sampling rate.", 8 SER/~{PAR} (in) "Serial/Parallel Selection Input. When LOW, the parallel port is selected; when HIGH, the serial interface mode is selected and some bits of the DATA bus are used as a serial port.", 9 D0 (hiz) "Bit 0 of the Parallel Port Data Output Bus. When SER/P\A\R\ is HIGH, these outputs are in high impedance.", 10 D1 (hiz) "Bit 1 of the Parallel Port Data Output Bus. When SER/P\A\R\ is HIGH, these outputs are in high impedance.", 11 D2/DIVSCLK0 (io) "When SER/P\A\R\ is LOW, this output is used as Bit 2 of the parallel port data output bus. When SER/P\A\R\ is HIGH, EXT/I\N\T\ is LOW, and RDC/SDIN is LOW (serial master read after convert), these inputs, part of the serial (See Datasheet)", 12 D3/DIVSCLK1 (io) "When SER/P\A\R\ is LOW, this output is used as Bit 3 of the parallel port data output bus. When SER/P\A\R\ is HIGH, EXT/I\N\T\ is LOW, and RDC/SDIN is LOW (serial master read after convert), these inputs, part of the serial (See Datasheet)", 13 D4/EXT/~{INT} (io) "When SER/P\A\R\ is LOW, this output is used as Bit 4 of the parallel port data output bus. When SER/P\A\R\ is HIGH, this input, part of the serial port, is used as a digital select input for choosing the internal data clock (See Datasheet)", 14 D5/INVSYNC (io) "When SER/P\A\R\ is LOW, this output is used as Bit 5 of the parallel port data output bus. When SER/P\A\R\ is HIGH, this input, part of the serial port, is used to select the active state of the SYNC signal. It is active in (See Datasheet)", 15 D6/INVSCLK (io) "When SER/P\A\R\ is LOW, this output is used as Bit 6 of the parallel port data output bus. When SER/P\A\R\ is HIGH, this input, part of the serial port, is used to invert the SCLK signal. It is active in both master and (See Datasheet)", 16 D7/RDC/SDIN (io) "When SER/P\A\R\ is LOW, this output is used as Bit 7 of the parallel port data output bus. When SER/P\A\R\ is HIGH, this input, part of the serial port, is used as either an external data input or a read mode selection input (See Datasheet)", 17 OGND (power) "Input/Output Interface Digital Power Ground.", 18 OVDD (power) "Input/Output Interface Digital Power. Nominally at the same supply as the host interface (5 V or 3 V).", 19 DVDD (power) "Digital Power. Nominally at 5 V.", 20 DGND (power) "Digital Power Ground.", 21 D8/SDOUT (hiz) "When SER/P\A\R\ is LOW, this output is used as Bit 8 of the parallel port data output bus. When SER/P\A\R\ is HIGH, this output, part of the serial port, is used as a serial data output synchronized to SCLK. Conversion (See Datasheet)", 22 D9/SCLK (io) "When SER/P\A\R\ is LOW, this output is used as Bit 9 of the parallel port data or SCLK output bus.When SER/P\A\R\ is HIGH, this pin, part of the serial port, is used as a serial data clock input or output, depending upon the (See Datasheet)", 23 D10/SYNC (hiz) "When SER/P\A\R\ is LOW, this output is used as Bit 10 of the parallel port data output bus.When SER/P\A\R\ is HIGH, this output, part of the serial port, is used as a digital output frame synchronization for use with the (See Datasheet)", 24 D11/RDERROR (hiz) "When SER/P\A\R\ is LOW, this output is used as Bit 11 of the parallel port data output bus. When SER/P\A\R\ and EXT/I\N\T\ are HIGH, this output, part of the serial port, is used as an incomplete read error flag. In slave (See Datasheet)", 25 D12 (hiz) "Bit 12 of the Parallel Port Data Output Bus. These pins are always outputs regardless of the state of SER/P\A\R\.", 26 D13 (hiz) "Bit 13 of the Parallel Port Data Output Bus. These pins are always outputs regardless of the state of SER/P\A\R\.", 27 D14 (hiz) "Bit 14 of the Parallel Port Data Output Bus. These pins are always outputs regardless of the state of SER/P\A\R\.", 28 D15 (hiz) "Bit 15 of the Parallel Port Data Output Bus. These pins are always outputs regardless of the state of SER/P\A\R\.", 29 BUSY (hiz) "Busy Output. Transitions HIGH when a conversion is started and remains HIGH until the conversion is complete and the data is latched into the on-chip shift register. The falling edge of BUSY could be used as a data ready (See Datasheet)", 30 DGND (power) "Must Be Tied to Digital Ground.", 31 ~{RD} (in) "Read Data. When C\S\ and R\D\ are both LOW, the interface parallel or serial output bus is enabled.", 32 ~{CS} (in) "Chip Select. When C\S\ and R\D\ are both LOW, the interface parallel or serial output bus is enabled. C\S\ is also used to gate the external clock.", 33 RESET (in) "Reset Input. When set to a logic HIGH, this pin resets the AD7667 and the current conversion, if any, is aborted. If not used, this pin could be tied to DGND.", 34 PD (in) "Power-Down Input. When set to a logic HIGH, power consumption is reduced and conversions are inhibited after the current one is completed.", 35 ~{CNVST} (in) "Start Conversion. If C\N\V\S\T\ is HIGH when the acquisition phase (t8) is complete, the next falling edge on C\N\V\S\T\ puts the internal sample/hold into the hold state and initiates a conversion. The mode is most (See Datasheet)", 36 AGND (power) "Analog Power Ground Pin.", 37 REF (io) "Reference Input Voltage. On-chip reference output voltage.", 38 REFGND (power) "Reference Input Analog Ground.", 39 INGND (in) "Analog Input Ground.", 40 NC "No Connect.", 41 AGND (power) "Analog Power Ground Pin.", 42 AGND (power) "Analog Power Ground Pin.", 43 IN (in) "Primary Analog Input with a Range of 0 V to 2.5 V.", 44 AVDD (power) "Input Analog Power Pin. Nominally 5 V.", 45 TEMP (out) "Temperature Sensor Voltage Output.", 46 REFBUFIN (io) "Reference Input Voltage. The reference output and the reference buffer input.", 47 PDREF (in) "This pin allows the choice of internal or external voltage references. When LOW, the on-chip reference is turned on. When HIGH, the internal reference is switched off and an external reference must be used.", 48 PDBUF (in) "This pin allows the choice of buffering an internal or external reference with the internal buffer. When LOW, the buffer is selected. When HIGH, the buffer is switched off.", 49 EP (power) "Exposed Paddle. The exposed paddle must be connected to AGND."